# Altium schematic symbol library TOP22xP.SchLib: 1 symbol
Pins are listed as number, name and electrical type; pins without a type are passive.

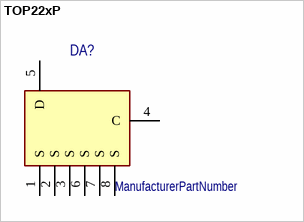
[diagram p0: symbol TOP22xP]

## TOP22xP
designator DA?  (value not drawn)
ManufacturerPartNumber: ManufacturerPartNumber
pins: 1 S, 2 S, 3 S, 4 C, 5 D, 6 S, 7 S, 8 S